# Altium schematic symbol library BC5xx.SchLib: 11 symbols
Pins are listed as number, name and electrical type; pins without a type are passive.

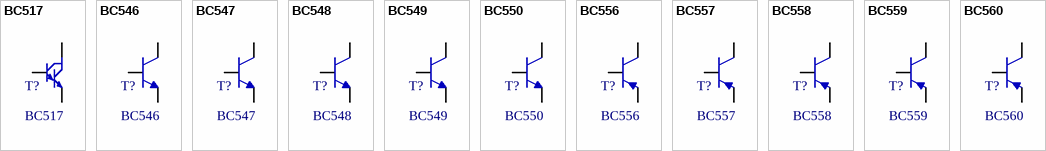
[diagram p0: symbols BC517 to BC560]

## BC517
designator T?
NPN Silicon Darlington Transistors
footprint TO-92 BENT (BENT LEAD)
footprint TO-92 STRAIGHT (STRAIGHT LEAD)
pins: 1 C, 2 B, 3 E

## BC546
designator T?
NPN Epitaxial Silicon Transistor
footprint TO-92 BENT (BENT LEAD)
footprint TO-92 STRAIGHT (STRAIGHT LEAD)
pins: 1 C, 2 B, 3 E

## BC547
designator T?
NPN Epitaxial Silicon Transistor
footprint TO-92 BENT (BENT LEAD)
footprint TO-92 STRAIGHT (STRAIGHT LEAD)
pins: 1 C, 2 B, 3 E

## BC548
designator T?
NPN Epitaxial Silicon Transistor
footprint TO-92 BENT (BENT LEAD)
footprint TO-92 STRAIGHT (STRAIGHT LEAD)
pins: 1 C, 2 B, 3 E

## BC549
designator T?
NPN Epitaxial Silicon Transistor
footprint TO-92 BENT (BENT LEAD)
footprint TO-92 STRAIGHT (STRAIGHT LEAD)
pins: 1 C, 2 B, 3 E

## BC550
designator T?
NPN Epitaxial Silicon Transistor
footprint TO-92 BENT (BENT LEAD)
footprint TO-92 STRAIGHT (STRAIGHT LEAD)
pins: 1 C, 2 B, 3 E

## BC556
designator T?
PNP Epitaxial Silicon Transistor
footprint TO-92 BENT (BENT LEAD)
footprint TO-92 STRAIGHT (STRAIGHT LEAD)
pins: 1 C, 2 B, 3 E

## BC557
designator T?
PNP Epitaxial Silicon Transistor
footprint TO-92 BENT (BENT LEAD)
footprint TO-92 STRAIGHT (STRAIGHT LEAD)
pins: 1 C, 2 B, 3 E

## BC558
designator T?
PNP Epitaxial Silicon Transistor
footprint TO-92 BENT (BENT LEAD)
footprint TO-92 STRAIGHT (STRAIGHT LEAD)
pins: 1 C, 2 B, 3 E

## BC559
designator T?
PNP Epitaxial Silicon Transistor
footprint TO-92 BENT (BENT LEAD)
footprint TO-92 STRAIGHT (STRAIGHT LEAD)
pins: 1 C, 2 B, 3 E

## BC560
designator T?
PNP Epitaxial Silicon Transistor
footprint TO-92 BENT (BENT LEAD)
footprint TO-92 STRAIGHT (STRAIGHT LEAD)
pins: 1 C, 2 B, 3 E